# EAGLE library part LPC4330 (library NXP)
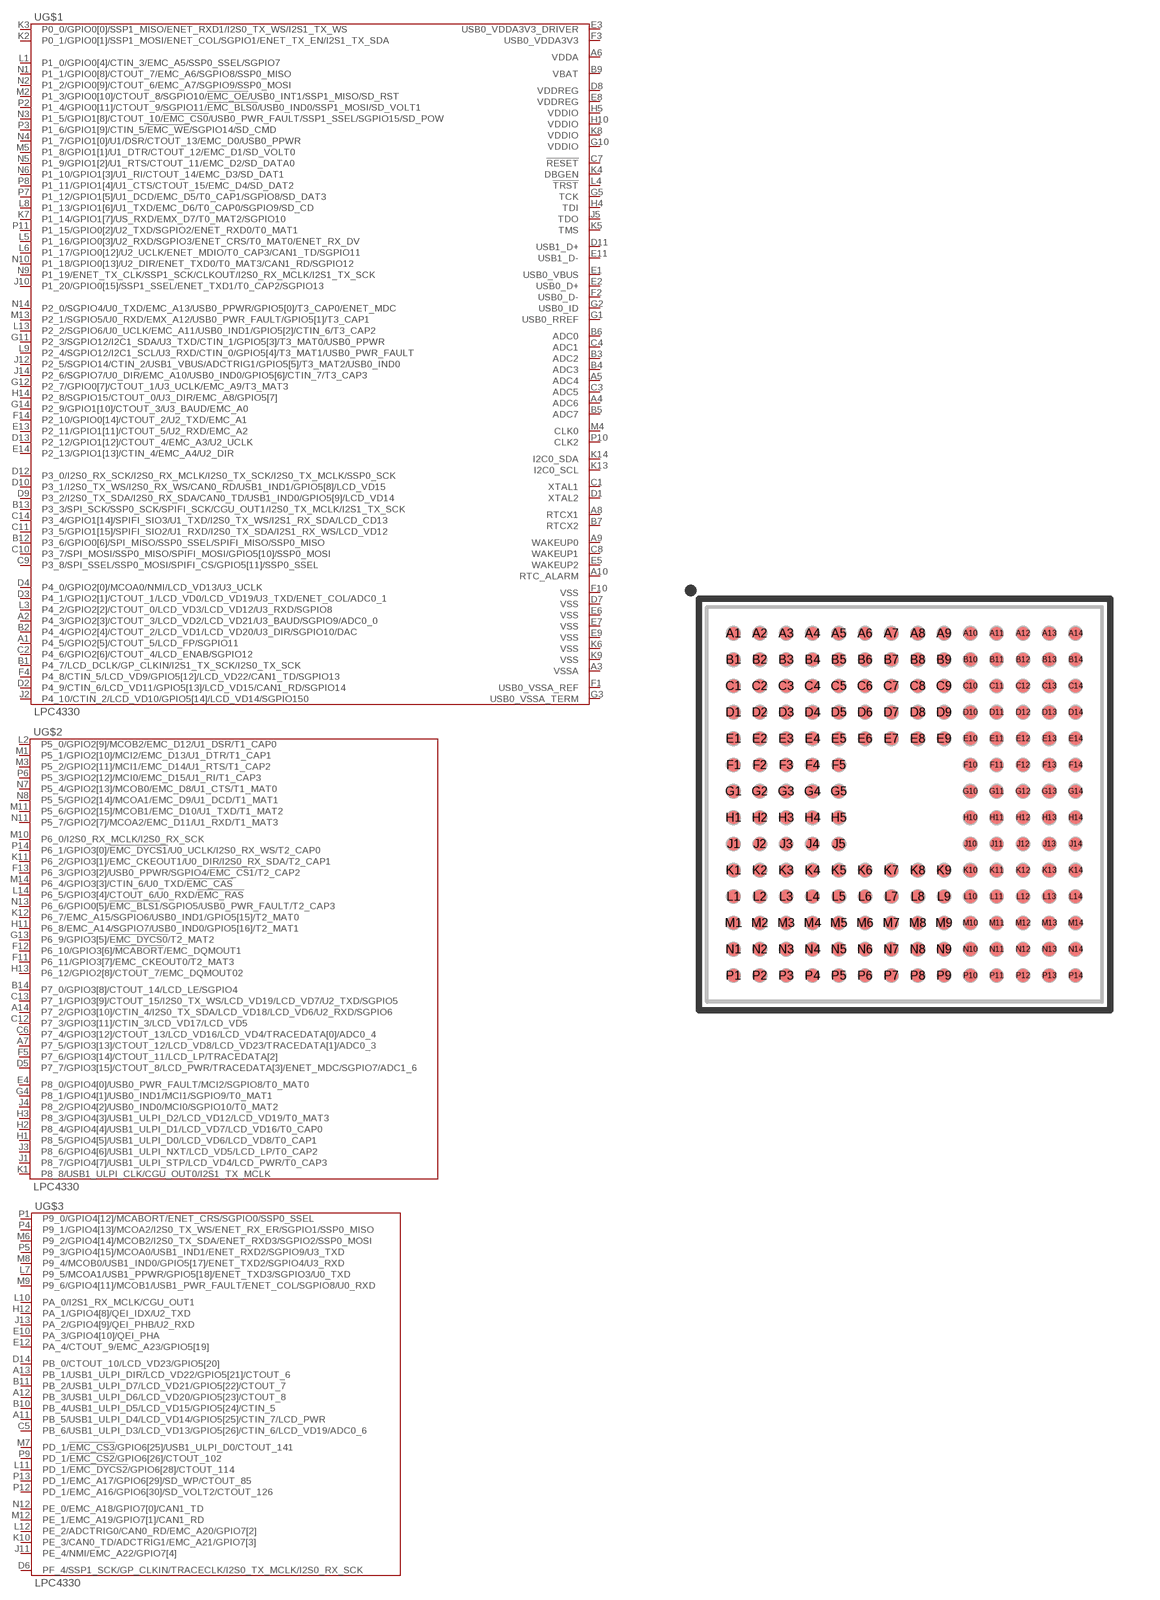
[diagram p6: symbol with the pads of TFBGA-180-12MM; footprint TFBGA-180-12MM]

Designator prefix U; gates G$1=LPC4330-180 G$2=LPC4330-180-PORT2 G$3=LPC4330-180-PORT3

## LPC4330FET180,551  [TFBGA-180-12MM]
A1  G$1:P4_5/GPIO2[5]/CTOUT_5/LCD_FP/SGPIO11
A2  G$1:P4_3/GPIO2[3]/CTOUT_3/LCD_VD2/LCD_VD21/U3_BAUD/SGPIO9/ADC0_0
A3  G$1:VSSA
A4  G$1:ADC6
A5  G$1:ADC4
A6  G$1:VDDA
A7  G$2:P7_5/GPIO3[13]/CTOUT_12/LCD_VD8/LCD_VD23/TRACEDATA[1]/ADC0_3
A8  G$1:RTCX1
A9  G$1:WAKEUP0
A10  G$1:RTC_ALARM
A11  G$3:PB_5/USB1_ULPI_D4/LCD_VD14/GPIO5[25]/CTIN_7/LCD_PWR
A12  G$3:PB_3/USB1_ULPI_D6/LCD_VD20/GPIO5[23]/CTOUT_8
A13  G$3:PB_1/USB1_ULPI_DIR/LCD_VD22/GPIO5[21]/CTOUT_6
A14  G$2:P7_2/GPIO3[10]/CTIN_4/I2S0_TX_SDA/LCD_VD18/LCD_VD6/U2_RXD/SGPIO6
B1  G$1:P4_7/LCD_DCLK/GP_CLKIN/I2S1_TX_SCK/I2S0_TX_SCK
B2  G$1:P4_4/GPIO2[4]/CTOUT_2/LCD_VD1/LCD_VD20/U3_DIR/SGPIO10/DAC
B3  G$1:ADC2
B4  G$1:ADC3
B5  G$1:ADC7
B6  G$1:ADC0
B7  G$1:RTCX2
B9  G$1:VBAT
B10  G$3:PB_4/USB1_ULPI_D5/LCD_VD15/GPIO5[24]/CTIN_5
B11  G$3:PB_2/USB1_ULPI_D7/LCD_VD21/GPIO5[22]/CTOUT_7
B12  G$1:P3_6/GPIO0[6]/SPI_MISO/SSP0_SSEL/SPIFI_MISO/SSP0_MISO
B13  G$1:P3_3/SPI_SCK/SSP0_SCK/SPIFI_SCK/CGU_OUT1/I2S0_TX_MCLK/I2S1_TX_SCK
B14  G$2:P7_0/GPIO3[8]/CTOUT_14/LCD_LE/SGPIO4
C1  G$1:XTAL1
C2  G$1:P4_6/GPIO2[6]/CTOUT_4/LCD_ENAB/SGPIO12
C3  G$1:ADC5
C4  G$1:ADC1
C5  G$3:PB_6/USB1_ULPI_D3/LCD_VD13/GPIO5[26]/CTIN_6/LCD_VD19/ADC0_6
C6  G$2:P7_4/GPIO3[12]/CTOUT_13/LCD_VD16/LCD_VD4/TRACEDATA[0]/ADC0_4
C7  G$1:!RESET
C8  G$1:WAKEUP1
C9  G$1:P3_8/SPI_SSEL/SSP0_MOSI/SPIFI_CS/GPIO5[11]/SSP0_SSEL
C10  G$1:P3_7/SPI_MOSI/SSP0_MISO/SPIFI_MOSI/GPIO5[10]/SSP0_MOSI
C11  G$1:P3_5/GPIO1[15]/SPIFI_SIO2/U1_RXD/I2S0_TX_SDA/I2S1_RX_WS/LCD_VD12
C12  G$2:P7_3/GPIO3[11]/CTIN_3/LCD_VD17/LCD_VD5
C13  G$2:P7_1/GPIO3[9]/CTOUT_15/I2S0_TX_WS/LCD_VD19/LCD_VD7/U2_TXD/SGPIO5
C14  G$1:P3_4/GPIO1[14]/SPIFI_SIO3/U1_TXD/I2S0_TX_WS/I2S1_RX_SDA/LCD_CD13
D1  G$1:XTAL2
D2  G$1:P4_9/CTIN_6/LCD_VD11/GPIO5[13]/LCD_VD15/CAN1_RD/SGPIO14
D3  G$1:P4_1/GPIO2[1]/CTOUT_1/LCD_VD0/LCD_VD19/U3_TXD/ENET_COL/ADC0_1
D4  G$1:P4_0/GPIO2[0]/MCOA0/NMI/LCD_VD13/U3_UCLK
D5  G$2:P7_7/GPIO3[15]/CTOUT_8/LCD_PWR/TRACEDATA[3]/ENET_MDC/SGPIO7/ADC1_6
D6  G$3:PF_4/SSP1_SCK/GP_CLKIN/TRACECLK/I2S0_TX_MCLK/I2S0_RX_SCK
D7  G$1:VSS
D8  G$1:VDDREG
D9  G$1:P3_2/I2S0_TX_SDA/I2S0_RX_SDA/CAN0_TD/USB1_IND0/GPIO5[9]/LCD_VD14
D10  G$1:P3_1/I2S0_TX_WS/I2S0_RX_WS/CAN0_RD/USB1_IND1/GPIO5[8]/LCD_VD15
D11  G$1:USB1_D+
D12  G$1:P3_0/I2S0_RX_SCK/I2S0_RX_MCLK/I2S0_TX_SCK/I2S0_TX_MCLK/SSP0_SCK
D13  G$1:P2_12/GPIO1[12]/CTOUT_4/EMC_A3/U2_UCLK
D14  G$3:PB_0/CTOUT_10/LCD_VD23/GPIO5[20]
E1  G$1:USB0_VBUS
E2  G$1:USB0_D+
E3  G$1:USB0_VDDA3V3_DRIVER
E4  G$2:P8_0/GPIO4[0]/USB0_PWR_FAULT/MCI2/SGPIO8/T0_MAT0
E5  G$1:WAKEUP2
E6  G$1:VSS
E7  G$1:VSS
E8  G$1:VDDREG
E9  G$1:VSS
E10  G$3:PA_3/GPIO4[10]/QEI_PHA
E11  G$1:USB1_D-
E12  G$3:PA_4/CTOUT_9/EMC_A23/GPIO5[19]
E13  G$1:P2_11/GPIO1[11]/CTOUT_5/U2_RXD/EMC_A2
E14  G$1:P2_13/GPIO1[13]/CTIN_4/EMC_A4/U2_DIR
F1  G$1:USB0_VSSA_REF
F2  G$1:USB0_D-
F3  G$1:USB0_VDDA3V3
F4  G$1:P4_8/CTIN_5/LCD_VD9/GPIO5[12]/LCD_VD22/CAN1_TD/SGPIO13
F5  G$2:P7_6/GPIO3[14]/CTOUT_11/LCD_LP/TRACEDATA[2]
F10  G$1:VSS
F11  G$2:P6_11/GPIO3[7]/EMC_CKEOUT0/T2_MAT3
F12  G$2:P6_10/GPIO3[6]/!MCABORT!/EMC_DQMOUT1
F13  G$2:P6_3/GPIO3[2]/USB0_PPWR/SGPIO4/!EMC_CS1!/T2_CAP2
F14  G$1:P2_10/GPIO0[14]/CTOUT_2/U2_TXD/EMC_A1
G1  G$1:USB0_RREF
G2  G$1:USB0_ID
G3  G$1:USB0_VSSA_TERM
G4  G$2:P8_1/GPIO4[1]/USB0_IND1/MCI1/SGPIO9/T0_MAT1
G5  G$1:TCK
G10  G$1:VDDIO
G11  G$1:P2_3/SGPIO12/I2C1_SDA/U3_TXD/CTIN_1/GPIO5[3]/T3_MAT0/USB0_PPWR
G12  G$1:P2_7/GPIO0[7]/CTOUT_1/U3_UCLK/EMC_A9/T3_MAT3
G13  G$2:P6_9/GPIO3[5]/!EMC_DYCS0!/T2_MAT2
G14  G$1:P2_9/GPIO1[10]/CTOUT_3/U3_BAUD/EMC_A0
H1  G$2:P8_5/GPIO4[5]/USB1_ULPI_D0/LCD_VD6/LCD_VD8/T0_CAP1
H2  G$2:P8_4/GPIO4[4]/USB1_ULPI_D1/LCD_VD7/LCD_VD16/T0_CAP0
H3  G$2:P8_3/GPIO4[3]/USB1_ULPI_D2/LCD_VD12/LCD_VD19/T0_MAT3
H4  G$1:TDI
H5  G$1:VDDIO
H10  G$1:VDDIO
H11  G$2:P6_8/EMC_A14/SGPIO7/USB0_IND0/GPIO5[16]/T2_MAT1
H12  G$3:PA_1/GPIO4[8]/QEI_IDX/U2_TXD
H13  G$2:P6_12/GPIO2[8]/CTOUT_7/EMC_DQMOUT02
H14  G$1:P2_8/SGPIO15/CTOUT_0/U3_DIR/EMC_A8/GPIO5[7]
J1  G$2:P8_7/GPIO4[7]/USB1_ULPI_STP/LCD_VD4/LCD_PWR/T0_CAP3
J2  G$1:P4_10/CTIN_2/LCD_VD10/GPIO5[14]/LCD_VD14/SGPIO150
J3  G$2:P8_6/GPIO4[6]/USB1_ULPI_NXT/LCD_VD5/LCD_LP/T0_CAP2
J4  G$2:P8_2/GPIO4[2]/USB0_IND0/MCI0/SGPIO10/T0_MAT2
J5  G$1:TDO
J10  G$1:P1_20/GPIO0[15]/SSP1_SSEL/ENET_TXD1/T0_CAP2/SGPIO13
J11  G$3:PE_4/NMI/EMC_A22/GPIO7[4]
J12  G$1:P2_5/SGPIO14/CTIN_2/USB1_VBUS/ADCTRIG1/GPIO5[5]/T3_MAT2/USB0_IND0
J13  G$3:PA_2/GPIO4[9]/QEI_PHB/U2_RXD
J14  G$1:P2_6/SGPIO7/U0_DIR/EMC_A10/USB0_IND0/GPIO5[6]/CTIN_7/T3_CAP3
K1  G$2:P8_8/USB1_ULPI_CLK/CGU_OUT0/I2S1_TX_MCLK
K2  G$1:P0_1/GPIO0[1]/SSP1_MOSI/ENET_COL/SGPIO1/ENET_TX_EN/I2S1_TX_SDA
K3  G$1:P0_0/GPIO0[0]/SSP1_MISO/ENET_RXD1/I2S0_TX_WS/I2S1_TX_WS
K4  G$1:DBGEN
K5  G$1:TMS
K6  G$1:VSS
K7  G$1:P1_14/GPIO1[7]/US_RXD/EMX_D7/T0_MAT2/SGPIO10
K8  G$1:VDDIO
K9  G$1:VSS
K10  G$3:PE_3/CAN0_TD/ADCTRIG1/EMC_A21/GPIO7[3]
K11  G$2:P6_2/GPIO3[1]/EMC_CKEOUT1/U0_DIR/I2S0_RX_SDA/T2_CAP1
K12  G$2:P6_7/EMC_A15/SGPIO6/USB0_IND1/GPIO5[15]/T2_MAT0
K13  G$1:I2C0_SCL
K14  G$1:I2C0_SDA
L1  G$1:P1_0/GPIO0[4]/CTIN_3/EMC_A5/SSP0_SSEL/SGPIO7
L2  G$2:P5_0/GPIO2[9]/MCOB2/EMC_D12/U1_DSR/T1_CAP0
L3  G$1:P4_2/GPIO2[2]/CTOUT_0/LCD_VD3/LCD_VD12/U3_RXD/SGPIO8
L4  G$1:!TRST
L5  G$1:P1_16/GPIO0[3]/U2_RXD/SGPIO3/ENET_CRS/T0_MAT0/ENET_RX_DV
L6  G$1:P1_17/GPIO0[12]/U2_UCLK/ENET_MDIO/T0_CAP3/CAN1_TD/SGPIO11
L7  G$3:P9_5/MCOA1/USB1_PPWR/GPIO5[18]/ENET_TXD3/SGPIO3/U0_TXD
L8  G$1:P1_13/GPIO1[6]/U1_TXD/EMC_D6/T0_CAP0/SGPIO9/SD_CD
L9  G$1:P2_4/SGPIO12/I2C1_SCL/U3_RXD/CTIN_0/GPIO5[4]/T3_MAT1/USB0_PWR_FAULT
L10  G$3:PA_0/I2S1_RX_MCLK/CGU_OUT1
L11  G$3:PD_1/!EMC_DYCS2!/GPIO6[28]/CTOUT_114
L12  G$3:PE_2/ADCTRIG0/CAN0_RD/EMC_A20/GPIO7[2]
L13  G$1:P2_2/SGPIO6/U0_UCLK/EMC_A11/USB0_IND1/GPIO5[2]/CTIN_6/T3_CAP2
L14  G$2:P6_5/GPIO3[4]/CTOUT_6/U0_RXD/!EMC_RAS
M1  G$2:P5_1/GPIO2[10]/MCI2/EMC_D13/U1_DTR/T1_CAP1
M2  G$1:P1_3/GPIO0[10]/CTOUT_8/SGPIO10/!EMC_OE!/USB0_INT1/SSP1_MISO/SD_RST
M3  G$2:P5_2/GPIO2[11]/MCI1/EMC_D14/U1_RTS/T1_CAP2
M4  G$1:CLK0
M5  G$1:P1_8/GPIO1[1]/U1_DTR/CTOUT_12/EMC_D1/SD_VOLT0
M6  G$3:P9_2/GPIO4[14]/MCOB2/I2S0_TX_SDA/ENET_RXD3/SGPIO2/SSP0_MOSI
M7  G$3:PD_1/!EMC_CS3!/GPIO6[25]/USB1_ULPI_D0/CTOUT_141
M8  G$3:P9_4/MCOB0/USB1_IND0/GPIO5[17]/ENET_TXD2/SGPIO4/U3_RXD
M9  G$3:P9_6/GPIO4[11]/MCOB1/USB1_PWR_FAULT/ENET_COL/SGPIO8/U0_RXD
M10  G$2:P6_0/I2S0_RX_MCLK/I2S0_RX_SCK
M11  G$2:P5_6/GPIO2[15]/MCOB1/EMC_D10/U1_TXD/T1_MAT2
M12  G$3:PE_1/EMC_A19/GPIO7[1]/CAN1_RD
M13  G$1:P2_1/SGPIO5/U0_RXD/EMX_A12/USB0_PWR_FAULT/GPIO5[1]/T3_CAP1
M14  G$2:P6_4/GPIO3[3]/CTIN_6/U0_TXD/!EMC_CAS!
N1  G$1:P1_1/GPIO0[8]/CTOUT_7/EMC_A6/SGPIO8/SSP0_MISO
N2  G$1:P1_2/GPIO0[9]/CTOUT_6/EMC_A7/SGPIO9/SSP0_MOSI
N3  G$1:P1_5/GPIO1[8]/CTOUT_10/!EMC_CS0!/USB0_PWR_FAULT/SSP1_SSEL/SGPIO15/SD_POW
N4  G$1:P1_7/GPIO1[0]/U1/DSR/CTOUT_13/EMC_D0/USB0_PPWR
N5  G$1:P1_9/GPIO1[2]/U1_RTS/CTOUT_11/EMC_D2/SD_DATA0
N6  G$1:P1_10/GPIO1[3]/U1_RI/CTOUT_14/EMC_D3/SD_DAT1
N7  G$2:P5_4/GPIO2[13]/MCOB0/EMC_D8/U1_CTS/T1_MAT0
N8  G$2:P5_5/GPIO2[14]/MCOA1/EMC_D9/U1_DCD/T1_MAT1
N9  G$1:P1_19/ENET_TX_CLK/SSP1_SCK/CLKOUT/I2S0_RX_MCLK/I2S1_TX_SCK
N10  G$1:P1_18/GPIO0[13]/U2_DIR/ENET_TXD0/T0_MAT3/CAN1_RD/SGPIO12
N11  G$2:P5_7/GPIO2[7]/MCOA2/EMC_D11/U1_RXD/T1_MAT3
N12  G$3:PE_0/EMC_A18/GPIO7[0]/CAN1_TD
N13  G$2:P6_6/GPIO0[5]/!EMC_BLS1!/SGPIO5/USB0_PWR_FAULT/T2_CAP3
N14  G$1:P2_0/SGPIO4/U0_TXD/EMC_A13/USB0_PPWR/GPIO5[0]/T3_CAP0/ENET_MDC
P1  G$3:P9_0/GPIO4[12]/!MCABORT!/ENET_CRS/SGPIO0/SSP0_SSEL
P2  G$1:P1_4/GPIO0[11]/CTOUT_9/SGPIO11/!EMC_BLS0!/USB0_IND0/SSP1_MOSI/SD_VOLT1
P3  G$1:P1_6/GPIO1[9]/CTIN_5/!EMC_WE!/SGPIO14/SD_CMD
P4  G$3:P9_1/GPIO4[13]/MCOA2/I2S0_TX_WS/ENET_RX_ER/SGPIO1/SSP0_MISO
P5  G$3:P9_3/GPIO4[15]/MCOA0/USB1_IND1/ENET_RXD2/SGPIO9/U3_TXD
P6  G$2:P5_3/GPIO2[12]/MCI0/EMC_D15/U1_RI/T1_CAP3
P7  G$1:P1_12/GPIO1[5]/U1_DCD/EMC_D5/T0_CAP1/SGPIO8/SD_DAT3
P8  G$1:P1_11/GPIO1[4]/U1_CTS/CTOUT_15/EMC_D4/SD_DAT2
P9  G$3:PD_1/!EMC_CS2!/GPIO6[26]/CTOUT_102
P10  G$1:CLK2
P11  G$1:P1_15/GPIO0[2]/U2_TXD/SGPIO2/ENET_RXD0/T0_MAT1
P12  G$3:PD_1/EMC_A16/GPIO6[30]/SD_VOLT2/CTOUT_126
P13  G$3:PD_1/EMC_A17/GPIO6[29]/SD_WP/CTOUT_85
P14  G$2:P6_1/GPIO3[0]/!EMC_DYCS1!/U0_UCLK/I2S0_RX_WS/T2_CAP0

## Footprint TFBGA-180-12MM (pad centres in mm)
smd 0.4 x 0.4: A1 -5.2,5.2; A2 -4.4,5.2; A3 -3.6,5.2; A4 -2.8,5.2; A5 -2,5.2; A6 -1.2,5.2; A7 -0.4,5.2; A8 0.4,5.2; A9 1.2,5.2; A10 2,5.2; A11 2.8,5.2; A12 3.6,5.2; A13 4.4,5.2; A14 5.2,5.2; B1 -5.2,4.4; B2 -4.4,4.4; B3 -3.6,4.4; B4 -2.8,4.4; B5 -2,4.4; B6 -1.2,4.4; B7 -0.4,4.4; B8 0.4,4.4; B9 1.2,4.4; B10 2,4.4; B11 2.8,4.4; B12 3.6,4.4; B13 4.4,4.4; B14 5.2,4.4; C1 -5.2,3.6; C2 -4.4,3.6; C3 -3.6,3.6; C4 -2.8,3.6; C5 -2,3.6; C6 -1.2,3.6; C7 -0.4,3.6; C8 0.4,3.6; C9 1.2,3.6; C10 2,3.6; C11 2.8,3.6; C12 3.6,3.6; C13 4.4,3.6; C14 5.2,3.6; D1 -5.2,2.8; D2 -4.4,2.8; D3 -3.6,2.8; D4 -2.8,2.8; D5 -2,2.8; D6 -1.2,2.8; D7 -0.4,2.8; D8 0.4,2.8; D9 1.2,2.8; D10 2,2.8; D11 2.8,2.8; D12 3.6,2.8; D13 4.4,2.8; D14 5.2,2.8; E1 -5.2,2; E2 -4.4,2; E3 -3.6,2; E4 -2.8,2; E5 -2,2; E6 -1.2,2; E7 -0.4,2; E8 0.4,2; E9 1.2,2; E10 2,2; E11 2.8,2; E12 3.6,2; E13 4.4,2; E14 5.2,2; F1 -5.2,1.2; F2 -4.4,1.2; F3 -3.6,1.2; F4 -2.8,1.2; F5 -2,1.2; F10 2,1.2; F11 2.8,1.2; F12 3.6,1.2; F13 4.4,1.2; F14 5.2,1.2; G1 -5.2,0.4; G2 -4.4,0.4; G3 -3.6,0.4; G4 -2.8,0.4; G5 -2,0.4; G10 2,0.4; G11 2.8,0.4; G12 3.6,0.4; G13 4.4,0.4; G14 5.2,0.4; H1 -5.2,-0.4; H2 -4.4,-0.4; H3 -3.6,-0.4; H4 -2.8,-0.4; H5 -2,-0.4; H10 2,-0.4; H11 2.8,-0.4; H12 3.6,-0.4; H13 4.4,-0.4; H14 5.2,-0.4; J1 -5.2,-1.2; J2 -4.4,-1.2; J3 -3.6,-1.2; J4 -2.8,-1.2; J5 -2,-1.2; J10 2,-1.2; J11 2.8,-1.2; J12 3.6,-1.2; J13 4.4,-1.2; J14 5.2,-1.2; K1 -5.2,-2; K2 -4.4,-2; K3 -3.6,-2; K4 -2.8,-2; K5 -2,-2; K6 -1.2,-2; K7 -0.4,-2; K8 0.4,-2; K9 1.2,-2; K10 2,-2; K11 2.8,-2; K12 3.6,-2; K13 4.4,-2; K14 5.2,-2; L1 -5.2,-2.8; L2 -4.4,-2.8; L3 -3.6,-2.8; L4 -2.8,-2.8; L5 -2,-2.8; L6 -1.2,-2.8; L7 -0.4,-2.8; L8 0.4,-2.8; L9 1.2,-2.8; L10 2,-2.8; L11 2.8,-2.8; L12 3.6,-2.8; L13 4.4,-2.8; L14 5.2,-2.8; M1 -5.2,-3.6; M2 -4.4,-3.6; M3 -3.6,-3.6; M4 -2.8,-3.6; M5 -2,-3.6; M6 -1.2,-3.6; M7 -0.4,-3.6; M8 0.4,-3.6; M9 1.2,-3.6; M10 2,-3.6; M11 2.8,-3.6; M12 3.6,-3.6; M13 4.4,-3.6; M14 5.2,-3.6; N1 -5.2,-4.4; N2 -4.4,-4.4; N3 -3.6,-4.4; N4 -2.8,-4.4; N5 -2,-4.4; N6 -1.2,-4.4; N7 -0.4,-4.4; N8 0.4,-4.4; N9 1.2,-4.4; N10 2,-4.4; N11 2.8,-4.4; N12 3.6,-4.4; N13 4.4,-4.4; N14 5.2,-4.4; P1 -5.2,-5.2; P2 -4.4,-5.2; P3 -3.6,-5.2; P4 -2.8,-5.2; P5 -2,-5.2; P6 -1.2,-5.2; P7 -0.4,-5.2; P8 0.4,-5.2; P9 1.2,-5.2; P10 2,-5.2; P11 2.8,-5.2; P12 3.6,-5.2; P13 4.4,-5.2; P14 5.2,-5.2